# EAGLE library part WS4X3 (library radiotubes)
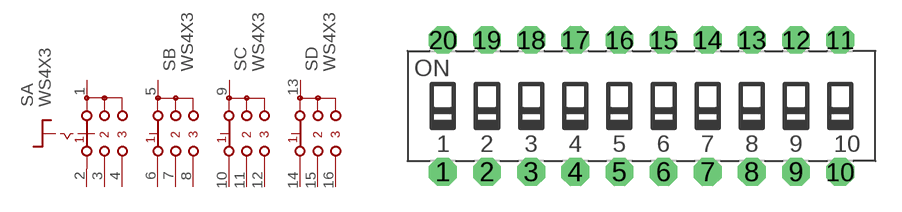
[diagram p112: symbol with the pads of 2X10; footprint 2X10]

Designator prefix S; gates A=DS-A103 B=DS-D103 C=DS-D103 D=DS-D103

## WS4X3  [2X10]
1  A:A  pas
2  A:A1  pas
3  A:A2  pas
4  A:A3  pas
5  B:B  pas
6  B:B1  pas
7  B:B2  pas
8  B:B3  pas
9  C:B  pas
10  C:B1  pas
11  C:B2  pas
12  C:B3  pas
13  D:B  pas
14  D:B1  pas
15  D:B2  pas
16  D:B3  pas

## Footprint 2X10 (pad centres in mm)
drill 0.813 pad 1.6 octagon: 1 -11.43,-3.81; 2 -8.89,-3.81; 3 -6.35,-3.81; 4 -3.81,-3.81; 5 -1.27,-3.81; 6 1.27,-3.81; 7 3.81,-3.81; 8 6.35,-3.81; 9 8.89,-3.81; 10 11.43,-3.81; 11 11.43,3.81; 12 8.89,3.81; 13 6.35,3.81; 14 3.81,3.81; 15 1.27,3.81; 16 -1.27,3.81; 17 -3.81,3.81; 18 -6.35,3.81; 19 -8.89,3.81; 20 -11.43,3.81